# EAGLE library part IMT-901 (library nanotec)
Schrittmotor / Mikroschritt-PWM-Konstantstrom-Treiber Source: http://de.nanotec.com .. s094-095_leistungsendst_IMT901.pdf
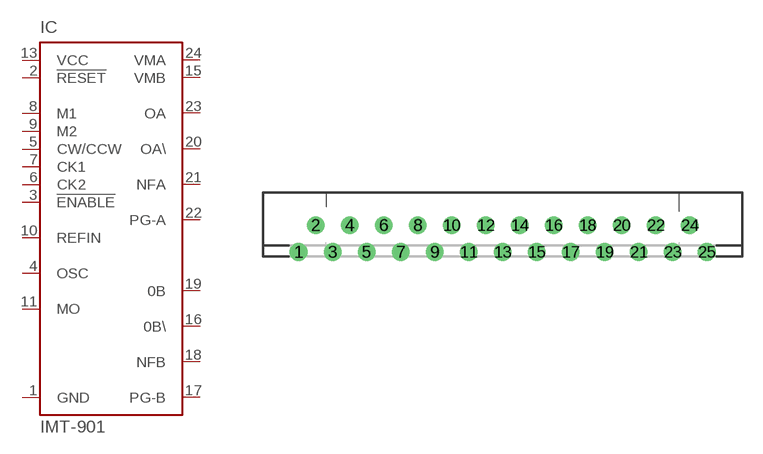
[diagram p0: symbol with the pads of SIL25; footprint SIL25]

Designator prefix IC

## IMT-901 (MPN: IMT-901; OC_FARNELL: 4743295; OC_NEWARK: 17M9708)  [SIL25]
1  GND  pwr
2  !RESET  in
3  !ENABLE  in
4  OSC  in
5  CW/CCW  in
6  CK2  in
7  CK1  in
8  M1  in
9  M2  in
10  REFIN  in
11  MO  in
12  NC  nc
13  VCC  pwr
14  NC  nc
15  VMB  in
16  0B\\  out
17  PG-B  in
18  NFB  in
19  0B  out
20  OA\\  out
21  NFA  in
22  PG-A  in
23  OA  out
24  VMA  in
25  NC  nc

## Footprint SIL25 (pad centres in mm)
Single In Line 25 Grid 1.27mm Source: http://de.nanotec.com .. s094-095_leistungsendst_IMT901.pdf
drill 0.8 pad 1.3 round: 1 -15.24,-2; 2 -13.97,0; 3 -12.7,-2; 4 -11.43,0; 5 -10.16,-2; 6 -8.89,0; 7 -7.62,-2; 8 -6.35,0; 9 -5.08,-2; 10 -3.81,0; 11 -2.54,-2; 12 -1.27,0; 13 0,-2; 14 1.27,0; 15 2.54,-2; 16 3.81,0; 17 5.08,-2; 18 6.35,0; 19 7.62,-2; 20 8.89,0; 21 10.16,-2; 22 11.43,0; 23 12.7,-2; 24 13.97,0; 25 15.24,-2